# EAGLE library part LT1161 (library GTEEL_gwu_mpnl_ucat_v10)
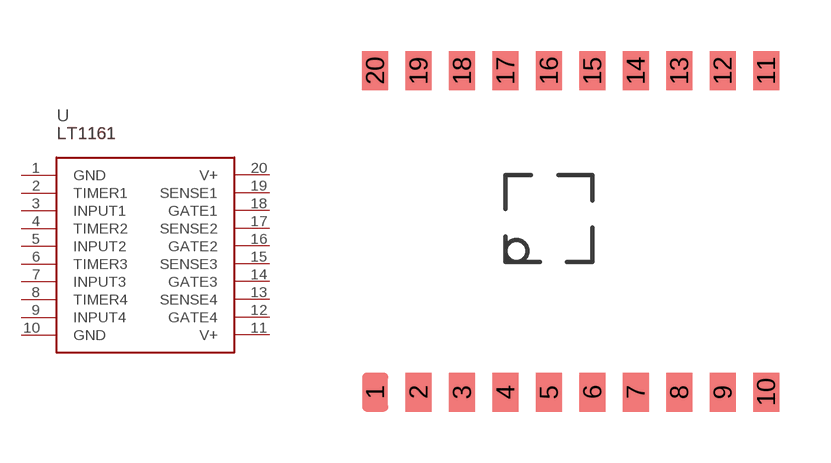
[diagram p4: symbol with the pads of 20-LEAD-PLASTIC-SO; footprint 20-LEAD-PLASTIC-SO]

Designator prefix U

## LT1161ISW (MF: LINEAR; MPN: LT1161ISW#TRPBF)  [20-LEAD-PLASTIC-SO]
1  GND
2  TIMER1
3  INPUT1
4  TIMER2
5  INPUT2
6  TIMER3
7  INPUT3
8  TIMER4
9  INPUT4
10  GND
11  V+
12  GATE4
13  SENSE4
14  GATE3
15  SENSE3
16  GATE2
17  SENSE2
18  GATE1
19  SENSE1
20  V+

## Footprint 20-LEAD-PLASTIC-SO (pad centres in mm)
smd 0.762 x 1.143: 1 0,0; 2 1.27,0; 3 2.54,0; 4 3.81,0; 5 5.08,0; 6 6.35,0; 7 7.62,0; 8 8.89,0; 9 10.16,0; 10 11.43,0; 11 11.43,9.398; 12 10.16,9.398; 13 8.89,9.398; 14 7.62,9.398; 15 6.35,9.398; 16 5.08,9.398; 17 3.81,9.398; 18 2.54,9.398; 19 1.27,9.398; 20 0,9.398